# EAGLE library part MAX924 (library hijack)
IC COMPARATOR QUAD LOWPWR 16SOIC
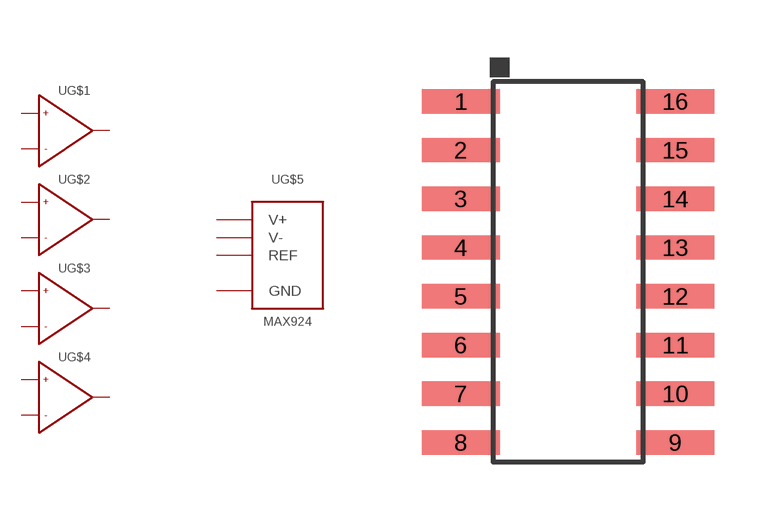
[diagram p6: symbol with the pads of SOIC-16; footprint SOIC-16]

Designator prefix U; gates G$1=COMPARATOR G$2=COMPARATOR G$3=COMPARATOR G$4=COMPARATOR G$5=COMPARATOR_POWER

## MAX924 (DIGIKEY: MAX924CSE+-ND)  [SOIC-16]
1  G$2:OUT
2  G$1:OUT
3  G$5:V+
4  G$1:-
5  G$1:+
6  G$2:-
7  G$2:+
8  G$5:REF
9  G$5:V-
10  G$3:-
11  G$3:+
12  G$4:-
13  G$4:+
14  G$5:GND
15  G$4:OUT
16  G$3:OUT

## Footprint SOIC-16 (pad centres in mm)
smd 2.032 x 0.635: 1 -2.794,4.445; 2 -2.794,3.175; 3 -2.794,1.905; 4 -2.794,0.635; 5 -2.794,-0.635; 6 -2.794,-1.905; 7 -2.794,-3.175; 8 -2.794,-4.445; 9 2.794,-4.445; 10 2.794,-3.175; 11 2.794,-1.905; 12 2.794,-0.635; 13 2.794,0.635; 14 2.794,1.905; 15 2.794,3.175; 16 2.794,4.445